# Altium footprint library micro8051.PcbLib: 6 footprints
Each footprint in its own frame and in the unit in brackets; x right, y up, seen from the top. Pads: shape width x height; smd on the part's side, far side on the other; paste and mask are expansions set on the pad; w line width, h text height; cw(c..) or ccw(c..) is an arc to the next point about the centre after c.
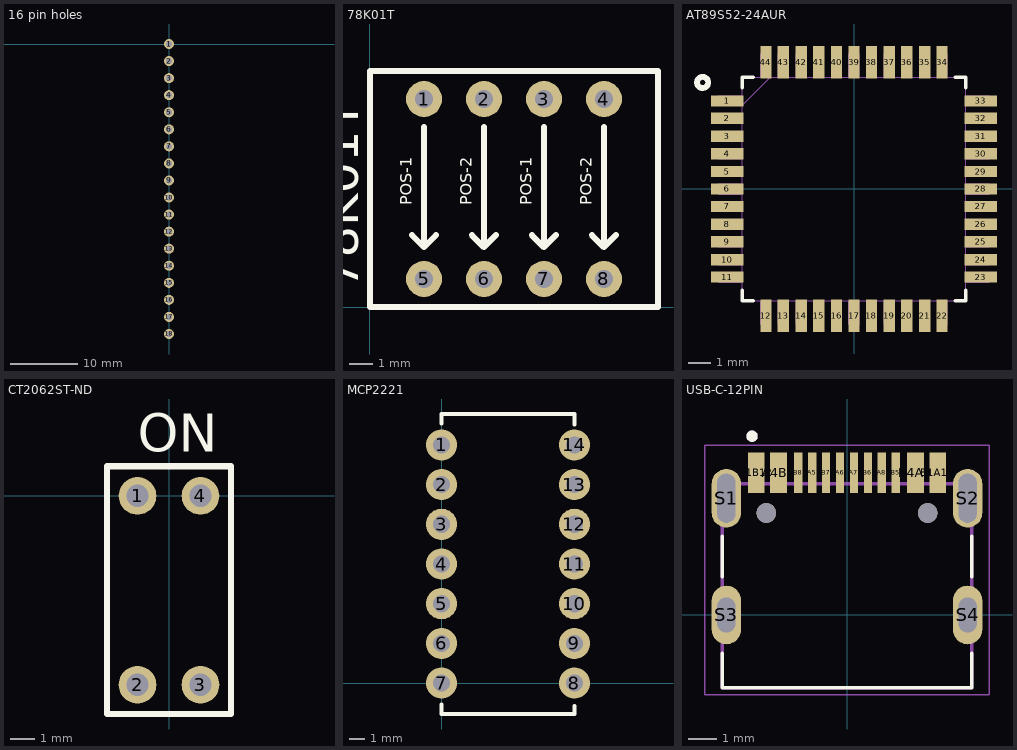
[diagram p0: the footprints below, top view; thin cyan lines are the x and y axes]

## 16 pin holes [mm]
pads (18):
  round 1.5 hole 0.9: 1(0,0) 2(0,-2.54) 3(0,-5.08) 4(0,-7.62) 5(0,-10.16) 6(0,-12.7) 7(0,-15.24) 8(0,-17.78) 9(0,-20.32) 10(0,-22.86) 11(0,-25.4) 12(0,-27.94) 13(0,-30.48) 14(0,-33.02) 15(0,-35.56) 16(0,-38.1) 17(0,-40.64) 18(0,-43.18)

## 78K01T [mil]
pads (8):
  round 60 hole 30: 1(90.16,346.85) 2(190.16,346.85) 3(290.16,346.85) 4(390.16,346.85) 5(90.16,46.85) 6(190.16,46.85) 7(290.16,46.85) 8(390.16,46.85)
Top Overlay:
  lines w10: 70,120 90,100 ; 90,300 90,100 ; 110,120 90,100 ; 170,120 190,100 ; 190,300 190,100 ; 210,120 190,100 ; 270,120 290,100 ; 290,300 290,100 ; 310,120 290,100 ; 370,120 390,100 ; 390,300 390,100 ; 410,120 390,100 ; 0,0 480.31,0 480.31,393.7 0,393.7 0,0
  text "78K01T" at -20,30 h60
  text "POS-1" at 70,170 h19.68
  text "POS-1" at 270,170 h19.68
  text "POS-2" at 370,170 h19.68
  text "POS-2" at 170,170 h19.68

## AT89S52-24AUR [mil]
pads (44):
  rect 58x20 smd: 1(-226,157) 2(-226,126) 3(-226,94) 4(-226,63) 5(-226,31) 6(-226,0) 7(-226,-31) 8(-226,-63) 9(-226,-94) 10(-226,-126) 11(-226,-157) 23(226,-157) 24(226,-126) 25(226,-94) 26(226,-63) 27(226,-31) 28(226,0) 29(226,31) 30(226,63) 31(226,94) 32(226,126) 33(226,157)
  rect 20x58 smd: 12(-157,-226) 13(-126,-226) 14(-94,-226) 15(-63,-226) 16(-31,-226) 17(0,-226) 18(31,-226) 19(63,-226) 20(94,-226) 21(126,-226) 22(157,-226) 34(157,226) 35(126,226) 36(94,226) 37(63,226) 38(31,226) 39(0,226) 40(-31,226) 41(-63,226) 42(-94,226) 43(-126,226) 44(-157,226)
Top Overlay:
  circle w10: c-270,190 r10
  lines w6: -199,-180 -199,-199 -180,-199 ; -199,180 -199,199 -180,199 ; 180,-199 199,-199 199,-180 ; 180,199 199,199 199,180
Mechanical 13:
  drawing of 181 lines, arcs and shapes, not listed
3D body "TQFP-44_10x10mm_P0.8mm.step": height 43.31, standoff 0, extent -236.21,-236.21 236.23,236.23

## CT2062ST-ND [mil] "2-SPST"
pads (4):
  round 60 hole 35.43: 1(-50,0) 2(-50,-300) 3(50,-300) 4(50,0)
Top Overlay:
  lines w10: -98.43,-346.46 -98.43,47.24 98.43,47.24 98.43,-346.46 -98.43,-346.46
  text "ON" at -50,70 h60

## MCP2221 [mm]
pads (14):
  round 2 hole 1.1: 1(0,15.24) 2(0,12.7) 3(0,10.16) 4(0,7.62) 5(0,5.08) 6(0,2.54) 7(0,0) 8(8.5,0) 9(8.5,2.54) 10(8.5,5.08) 11(8.5,7.62) 12(8.5,10.16) 13(8.5,12.7) 14(8.5,15.24)
Top Overlay:
  lines w0.254: 0,-1.374 0,-1.98 8.5,-1.98 8.5,-1.472 ; 0,16.614 0,17.22 8.5,17.22 8.5,16.562

## USB-C-12PIN [mm]
pads (18):
  rect 0.6x1.45 smd: A1B12(-3.25,5.095) A4B9(-2.45,5.095) B1A12(3.25,5.095) B4A9(2.45,5.095)
  rect 0.3x1.45 smd: A5(-1.25,5.095) A6(-0.25,5.095) A7(0.25,5.095) A8(1.25,5.095) B5(1.75,5.095) B6(0.75,5.095) B7(-0.75,5.095) B8(-1.75,5.095)
  oval 1.05x2.1 hole 0.65 slot 1.75 at 90 deg: S1(-4.32,4.18) S2(4.32,4.18)
  oval 1.05x2.1 hole 0.65 slot 1.25 at 90 deg: S3(-4.32,0) S4(4.32,0)
  round 0.7 hole 0.7 unplated: ""(-2.89,3.65) ""(2.89,3.65)
Top Overlay:
  circle w0.2: c-3.4,6.4 r0.1
  lines w0.127: -4.47,-1.37 -4.47,-2.6 4.47,-2.6 4.47,-1.37 ; -4.47,1.37 -4.47,2.81 ; 4.47,1.37 4.47,2.81
Mechanical 13:
  circle w0.2: c-3.4,6.4 r0.1
  lines w0.127: -4.47,-2.6 -4.47,4.7 4.47,4.7 4.47,-2.6 -4.47,-2.6
Mechanical 15:
  lines w0.05: -5.095,-2.85 -5.095,6.07 5.095,6.07 5.095,-2.85 -5.095,-2.85
3D body "TYPE-C-31-M-12--3DModel-STEP-56544.STEP": height 3.31, standoff -0.99, extent -4.47,-2.6 4.47,5.305